# Altium footprint library 1984714.PcbLib: 1 footprints
Each footprint in its own frame and in the unit in brackets; x right, y up, seen from the top. Pads: shape width x height; smd on the part's side, far side on the other; paste and mask are expansions set on the pad; w line width, h text height; cw(c..) or ccw(c..) is an arc to the next point about the centre after c.
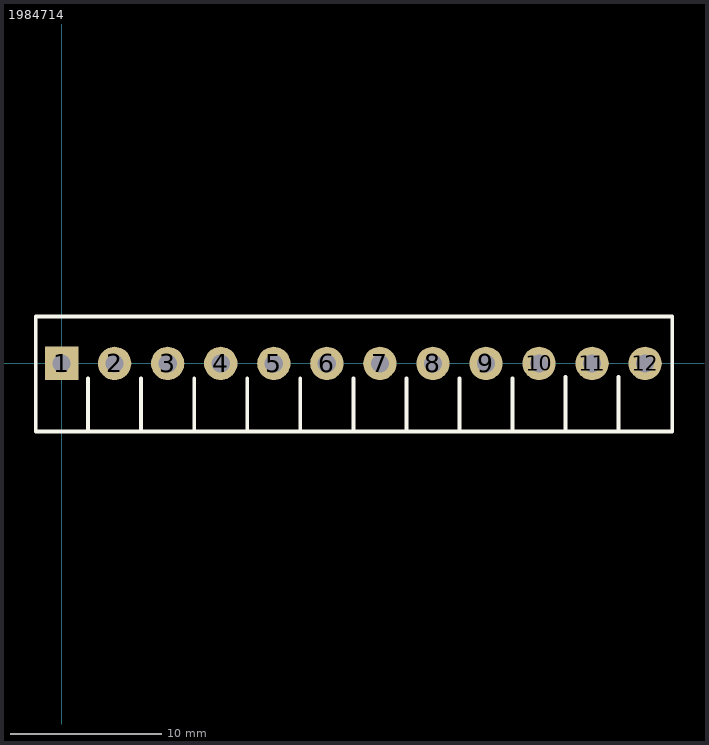
[diagram p0: the footprint, top view; thin cyan lines are the x and y axes]

## 1984714 [mm] "PCB terminal block - PT 1,5/12-3,5-H"
pads (12):
  rect 2.2x2.2 hole 1.2: 1(0,0)
  round 2.2 hole 1.2: 2(3.5,0) 3(7,0) 4(10.5,0) 5(14,0) 6(17.5,0) 7(21,0) 8(24.5,0) 9(28,0) 10(31.5,0) 11(35,0) 12(38.5,0)
Top Overlay:
  lines w0.254: 1.75,-4.5 1.75,-1 ; 5.25,-4.5 5.25,-1 ; 8.75,-4.5 8.75,-1 ; 12.25,-4.5 12.25,-1 ; 15.75,-4.5 15.75,-1 ; 19.25,-4.5 19.25,-1 ; 22.75,-4.5 22.75,-1 ; 26.25,-4.5 26.25,-1 ; 29.75,-4.5 29.75,-1 ; 33.235,-4.398 33.235,-0.898 ; 36.735,-4.398 36.735,-0.898 ; -1.7,-4.5 -1.7,3.1 40.284,3.1 40.284,-4.5 -1.7,-4.5
3D body "1984714.stp": height 9.01, standoff -4.49, extent -1.753,-4.511 40.817,3.089